# EAGLE library part MICROUSB (library jimduino)
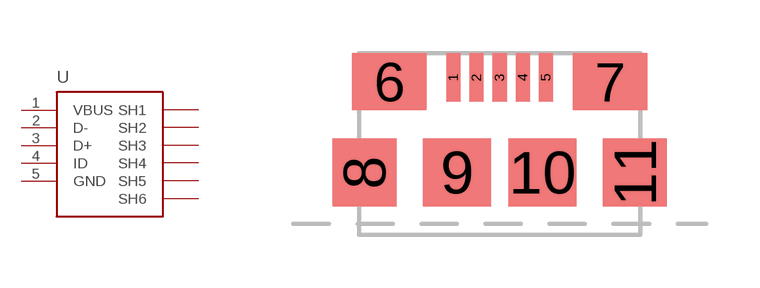
[diagram p0: symbol with the pads of MICROUSB; footprint MICROUSB]

Designator prefix -

## MICROUSB  [MICROUSB]
1  VBUS
2  D-
3  D+
4  ID
5  GND
6  SH1
7  SH2
8  SH3
9  SH4
10  SH5
11  SH6

## Footprint MICROUSB (pad centres in mm)
smd 0.4 x 1.35: 1 -1.3,2.675; 2 -0.65,2.675; 3 0,2.675; 4 0.65,2.675; 5 1.3,2.675
smd 2.1 x 1.6: 6 -3.1,2.55; 7 3.1,2.55
smd 1.8 x 1.9: 8 -3.8,0; 11 3.8,0
smd 1.9 x 1.9: 9 -1.2,0; 10 1.2,0